# EAGLE library part HD44780LCD (library BaseApp)
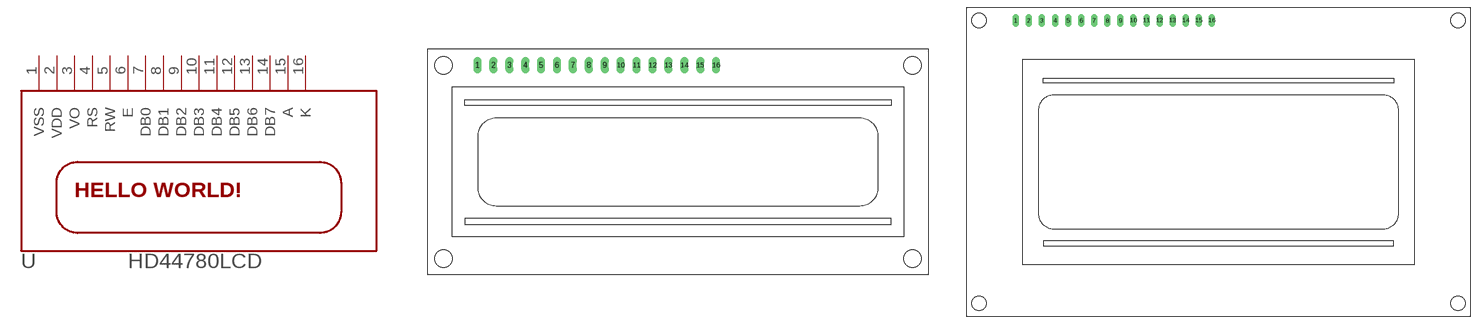
[diagram p16: symbol with the pads of LCD1602; footprints LCD1602, LCD20X4]

Designator prefix -

## HD44780LCD-1602  [LCD1602]
1  VSS  sup
2  VDD  sup
3  VO  in
4  RS  in
5  RW  in
6  E  in
7  DB0
8  DB1
9  DB2
10  DB3
11  DB4
12  DB5
13  DB6
14  DB7
15  A  in
16  K  in

## HD44780LCD-20X4  [LCD20X4]
Pads as for LCD1602

## Footprint LCD1602 (pad centres in mm)
drill 0.8 long: 1 8,33.46; 2 10.54,33.46; 3 13.08,33.46; 4 15.62,33.46; 5 18.16,33.46; 6 20.7,33.46; 7 23.24,33.46; 8 25.78,33.46; 9 28.32,33.46; 10 30.86,33.46; 11 33.4,33.46; 12 35.94,33.46; 13 38.48,33.46; 14 41.02,33.46; 15 43.56,33.46; 16 46.1,33.46
hole 2.8 at 2.54,2.54
hole 2.8 at 2.54,33.46
hole 2.8 at 77.46,33.46
hole 2.8 at 77.46,2.54

## Footprint LCD20X4 (pad centres in mm)
drill 0.8 long: 1 -39.37,27.5; 2 -36.83,27.5; 3 -34.29,27.5; 4 -31.75,27.5; 5 -29.21,27.5; 6 -26.67,27.5; 7 -24.13,27.5; 8 -21.59,27.5; 9 -19.05,27.5; 10 -16.51,27.5; 11 -13.97,27.5; 12 -11.43,27.5; 13 -8.89,27.5; 14 -6.35,27.5; 15 -3.81,27.5; 16 -1.27,27.5
hole 2.8 at -46.5,-27.5
hole 2.8 at -46.5,27.5
hole 2.8 at 46.5,27.5
hole 2.8 at 46.5,-27.5